# EAGLE library part LTC4412 (library BrownSpaceEngineering)
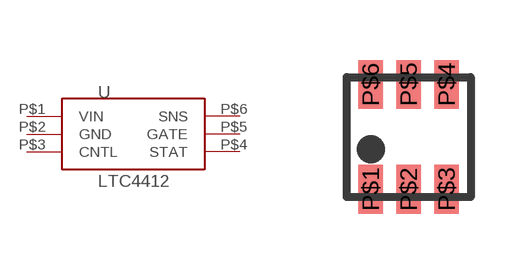
[diagram p1: symbol with the pads of TSOT23-6; footprint TSOT23-6]

Designator prefix U

## LTC4412  [TSOT23-6]
P$1  VIN
P$2  GND
P$3  CNTL
P$4  STAT
P$5  GATE
P$6  SNS

## Footprint TSOT23-6 (pad centres in mm)
smd 0.62 x 1.22: P$1 0,0; P$2 0.95,0; P$3 1.9,0; P$4 1.9,2.62; P$5 0.95,2.62; P$6 0,2.62